# Altium schematic symbol library SN74AVC.SchLib: 1 symbol
Pins are listed as number, name and electrical type; pins without a type are passive.

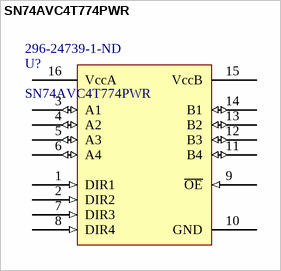
[diagram p0: symbol SN74AVC4T774PWR]

## SN74AVC4T774PWR
designator U?  Supplier Part Number 1: 296-24739-1-ND
TexasInsturuments SN74AVC Standard Logic / Bidirectional Level Shifter, 4 bit; ComponentLink1Description: DataSheet; ComponentLink1URL: http://www.ti.com/lit/ds/symlink/sn74avc4t774.pdf; Supplier 1: Digi-Key
footprint TSSOP16 - 1.2mm max height (TSOP, 16-Leads, Body 5.00x4.40mm, Pitch 0.65mm, IPC Medium Density)
pins: 1 DIR1 (in), 2 DIR2 (in), 3 A1 (io), 4 A2 (io), 5 A3 (io), 6 A4 (io), 7 DIR3 (in), 8 DIR4 (in), 9 ~{OE} (in), 10 GND (power), 11 B4 (io), 12 B3 (io), 13 B2 (io), 14 B1 (io), 15 VccB (power), 16 VccA (power)